# Altium footprint library modules.PcbLib: 16 footprints
Each footprint in its own frame and in the unit in brackets; x right, y up, seen from the top. Pads: shape width x height; smd on the part's side, far side on the other; paste and mask are expansions set on the pad; w line width, h text height; cw(c..) or ccw(c..) is an arc to the next point about the centre after c.
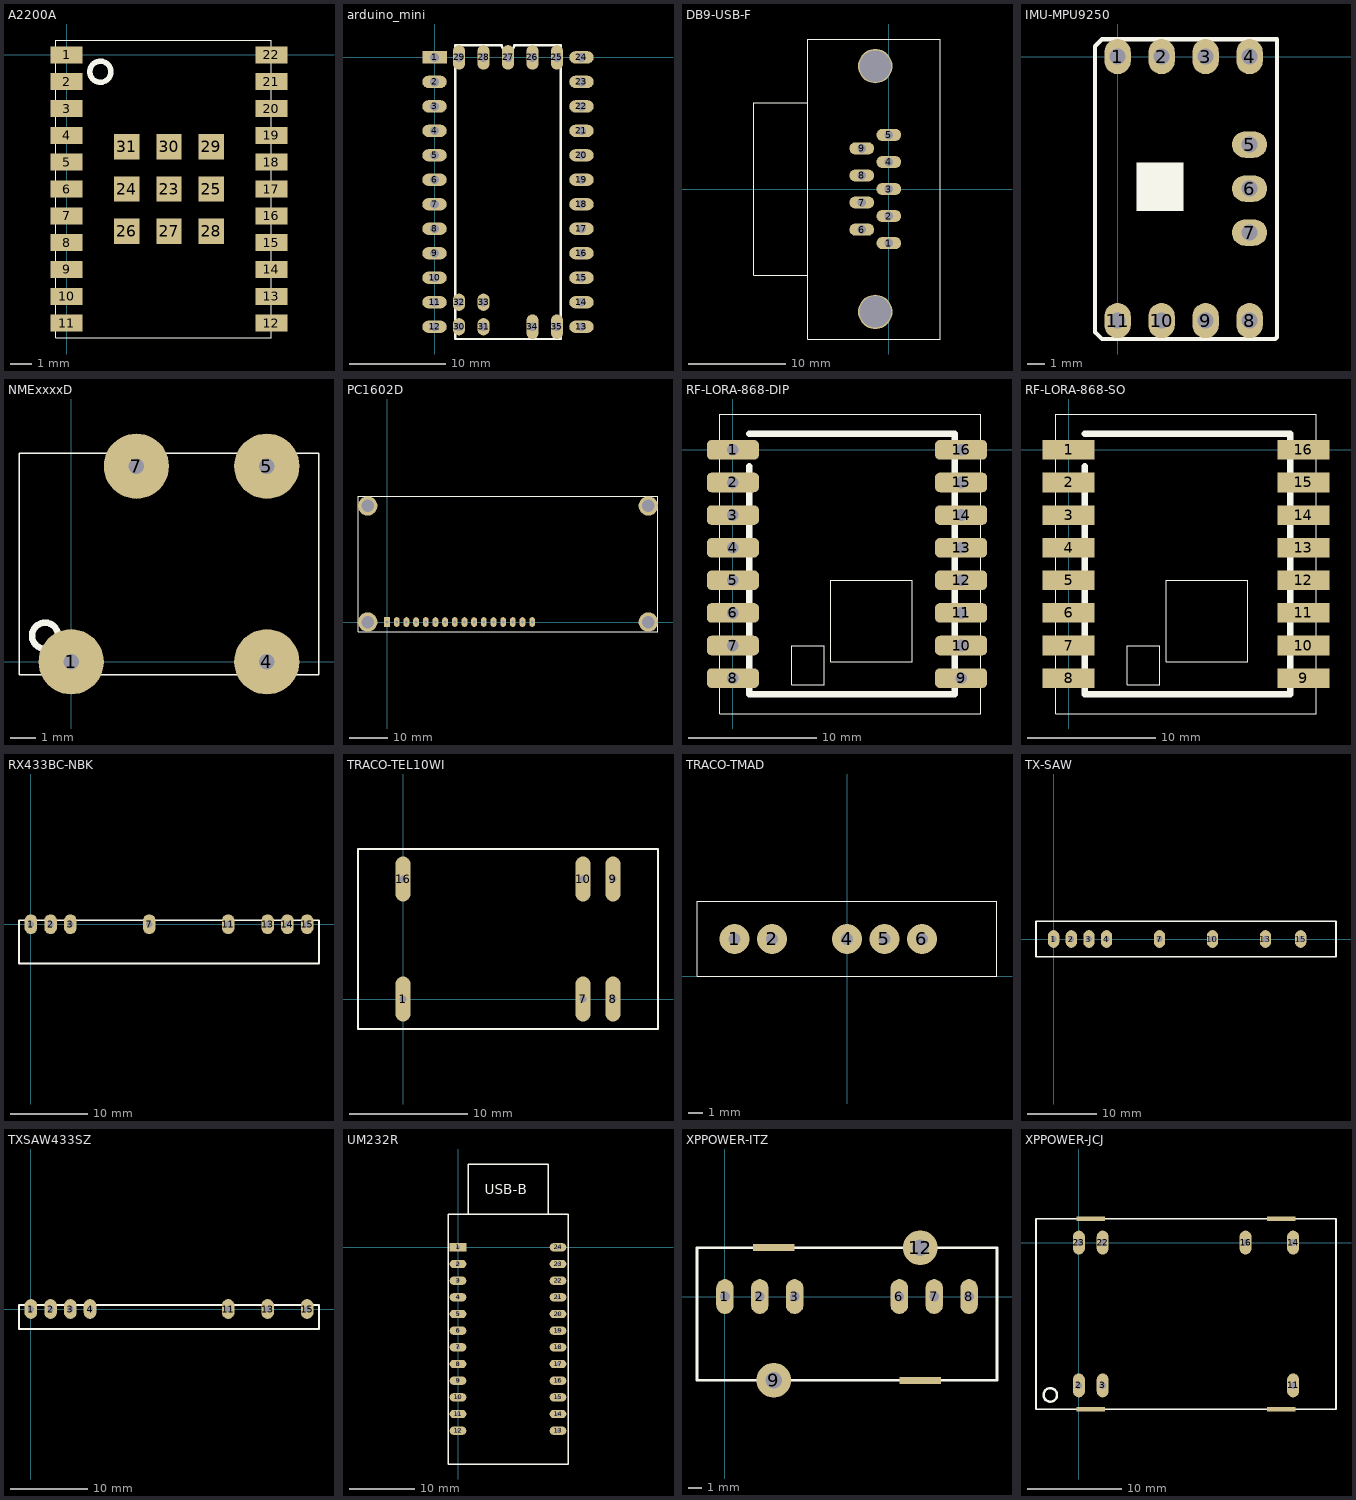
[diagram p0: the footprints below, top view; thin cyan lines are the x and y axes]

## A2200A [mm]
pads (31):
  rect 1.5x0.8 smd: 1(0,0) 2(0,-1.27) 3(0,-2.54) 4(0,-3.81) 5(0,-5.08) 6(0,-6.35) 7(0,-7.62) 8(0,-8.89) 9(0,-10.16) 10(0,-11.43) 11(0,-12.7) 12(9.7,-12.7) 13(9.7,-11.43) 14(9.7,-10.16) 15(9.7,-8.89) 16(9.7,-7.62) 17(9.7,-6.35) 18(9.7,-5.08) 19(9.7,-3.81) 20(9.7,-2.54) 21(9.7,-1.27) 22(9.7,0)
  rect 1.2x1.2 smd: 23(4.85,-6.35) 24(2.85,-6.35) 25(6.85,-6.35) 26(2.85,-8.35) 27(4.85,-8.35) 28(6.85,-8.35) 29(6.85,-4.35) 30(4.85,-4.35) 31(2.85,-4.35)
Top Overlay:
  circle w0.254: c1.6,-0.8 r0.5
  lines w0.025: -0.5,-13.4 9.7,-13.4 9.7,0.7 -0.5,0.7 -0.5,-13.4

## arduino_mini [mil]
pads (35):
  rect 100x50 hole 36: 1(0,0)
  oval 100x50 hole 36: 2(0,-100) 3(0,-200) 4(0,-300) 5(0,-400) 6(0,-500) 7(0,-600) 8(0,-700) 9(0,-800) 10(0,-900) 11(0,-1000) 12(0,-1100) 13(600,-1100) 14(600,-1000) 15(600,-900) 16(600,-800) 17(600,-700) 18(600,-600) 19(600,-500) 20(600,-400) 21(600,-300) 22(600,-200) 23(600,-100) 24(600,0)
  oval 50x100 hole 36: 25(500,0) 26(400,0) 27(300,0) 28(200,0) 29(100,0) 34(400,-1100) 35(500,-1100)
  oval 50x70 hole 36: 30(100,-1100) 31(200,-1100) 32(100,-1000) 33(200,-1000)
Top Overlay:
  lines w10: 85,-1150 515,-1150 515,50 325,50 cw(c300,50) 275,50 85,50 85,-1150

## DB9-USB-F [mil]
pads (11):
  oval 100x50 hole 36: 1(0,-220) 2(0,-110) 3(0,0) 4(0,110) 5(0,220) 6(-110,-165) 7(-110,-55) 8(-110,55) 9(-110,165)
  round 140 hole 128: ""(-55,-500) ""(-55,500)
Top Overlay:
  lines w1.97: -550,-350 -550,350
  lines w5: -550,-350 -330,-350 ; -550,350 -330,350 ; -330,-610 -330,610 210,610 210,-610 -330,-610

## IMU-MPU9250 [mil]
pads (11):
  oval 60x80 hole 36: 1(0,0) 2(100,0) 3(200,0) 4(300,0) 8(300,-600) 9(200,-600) 10(100,-600) 11(0,-600)
  oval 80x60 hole 36: 5(300,-200) 6(300,-300) 7(300,-400)
Top Overlay:
  rectangle: 43.31,-350.39 149.61,-240.16
  lines w10: -51.18,-625.98 -51.18,23.62 -35.43,39.37 362.2,39.37 362.2,-637.8 358.27,-641.73 -35.43,-641.73 -51.18,-625.98

## NMExxxxD [mil]
pads (4):
  round 100 hole 24: 1(0,0) 4(300,0) 5(300,300) 7(100,300)
Top Overlay:
  circle w10: c-40,40 r20
  lines w1.97: -80,-20 -80,320 380,320 380,-20 -80,-20

## PC1602D [mil]
pads (20):
  rect 60x100 hole 28: 1(0,0)
  oval 60x100 hole 28: 2(100,0) 3(200,0) 4(300,0) 5(400,0) 6(500,0) 7(600,0) 8(700,0) 9(800,0) 10(900,0) 11(1000,0) 12(1100,0) 13(1200,0) 14(1300,0) 15(1400,0) 16(1500,0)
  round 200 hole 128: ""(-200,0) ""(-200,1200) ""(2700,0) ""(2700,1200)
Top Overlay:
  lines w10: -300,-100 2800,-100 2800,1300 -300,1300 -300,-100

## RF-LORA-868-DIP [mil]
pads (16):
  rrect50% 160x60 hole 36: 1(0,0) 2(0,-100) 3(0,-200) 4(0,-300) 5(0,-400) 6(0,-500) 7(0,-600) 8(0,-700) 9(700,-700) 10(700,-600) 11(700,-500) 12(700,-400) 13(700,-300) 14(700,-200) 15(700,-100) 16(700,0)
Top Overlay:
  lines w2: -40,-810 760,-810 760,110 -40,110 -40,-810 ; 180,-720 180,-600 280,-600 280,-720 180,-720 ; 300,-650 300,-400 550,-400 550,-650 300,-650
  lines w20: 50,-50 50,-750 680,-750 680,50 50,50

## RF-LORA-868-SO [mil]
pads (16):
  rect 160x60 smd: 1(0,0) 2(0,-100) 3(0,-200) 4(0,-300) 5(0,-400) 6(0,-500) 7(0,-600) 8(0,-700) 9(720,-700) 10(720,-600) 11(720,-500) 12(720,-400) 13(720,-300) 14(720,-200) 15(720,-100) 16(720,0)
Top Overlay:
  lines w2: -40,-810 760,-810 760,110 -40,110 -40,-810 ; 180,-720 180,-600 280,-600 280,-720 180,-720 ; 300,-650 300,-400 550,-400 550,-650 300,-650
  lines w20: 50,-50 50,-750 680,-750 680,50 50,50

## RX433BC-NBK [mil]
pads (8):
  oval 64x100 hole 32: 1(0,0) 2(100,0) 3(200,0) 7(600,0) 11(1000,0) 13(1200,0) 14(1300,0) 15(1400,0)
Top Overlay:
  lines w10: -60,-200 1460,-200 1460,20 -60,20 -60,-200

## TRACO-TEL10WI [mil]
pads (6):
  oval 50x150 hole 24: 1(0,0) 7(600,0) 8(700,0) 9(700,400) 10(600,400) 16(0,400)
Top Overlay:
  lines w7.87: -150,-100 -150,500 0,500 750,500 850,500 850,-100 750,-100 0,-100 -150,-100

## TRACO-TMAD [mil]
pads (5):
  round 80 hole 32: 1(-300,100) 2(-200,100) 4(0,100) 5(100,100) 6(200,100)
Top Overlay:
  lines w1.97: -400,0 400,0 400,200 -100,200 -400,200 -400,0

## TX-SAW [mil]
pads (8):
  oval 64x100 hole 32: 1(0,0) 2(100,0) 3(200,0) 4(300,0) 7(600,0) 10(900,0) 13(1200,0) 15(1400,0)
Top Overlay:
  lines w10: -100,-100 1600,-100 1600,100 -100,100 -100,-100

## TXSAW433SZ [mil]
pads (7):
  oval 64x100 hole 32: 1(0,0) 2(100,0) 3(200,0) 4(300,0) 11(1000,0) 13(1200,0) 15(1400,0)
Top Overlay:
  lines w10: -60,-100 1460,-100 1460,20 -60,20 -60,-100

## UM232R [mil]
pads (24):
  rect 100x50 hole 24: 1(0,0)
  oval 100x50 hole 24: 2(0,-100) 3(0,-200) 4(0,-300) 5(0,-400) 6(0,-500) 7(0,-600) 8(0,-700) 9(0,-800) 10(0,-900) 11(0,-1000) 12(0,-1100) 13(600,-1100) 14(600,-1000) 15(600,-900) 16(600,-800) 17(600,-700) 18(600,-600) 19(600,-500) 20(600,-400) 21(600,-300) 22(600,-200) 23(600,-100) 24(600,0)
Top Overlay:
  lines w7.87: 60,200 60,500 540,500 540,200 ; -60,-1300 100,-1300 405,-1300 660,-1300 660,200 475,200 100,200 -60,200 -60,-1300
  text "USB-B" at 160,320 h60

## XPPOWER-ITZ [mil]
pads (10):
  oval 50x100 hole 28: 1(0,0) 2(100,0) 3(200,0) 6(500,0) 7(600,0) 8(700,0)
  round 100 hole 48: 9(140,-240) 12(560,140)
  rect 120x20 smd: ""(140,140) ""(560,-240)
Top Overlay:
  lines w7.87: -80,-240 -80,140 780,140 780,-240 -80,-240

## XPPOWER-JCJ [mil]
pads (11):
  oval 50x100 hole 28: 2(0,-600) 3(100,-600) 11(900,-600) 14(900,0) 16(700,0) 22(100,0) 23(0,0)
  rect 120x20 smd: ""(50,-700) ""(50,100) ""(850,-700) ""(850,100)
Top Overlay:
  circle w10: c-120,-640 r28.28
  lines w7.87: -180,-700 1080,-700 1080,100 -180,100 -180,-700